# Altium schematic symbol library Power_Protection.SchLib: 144 symbols (part 2 of 2)
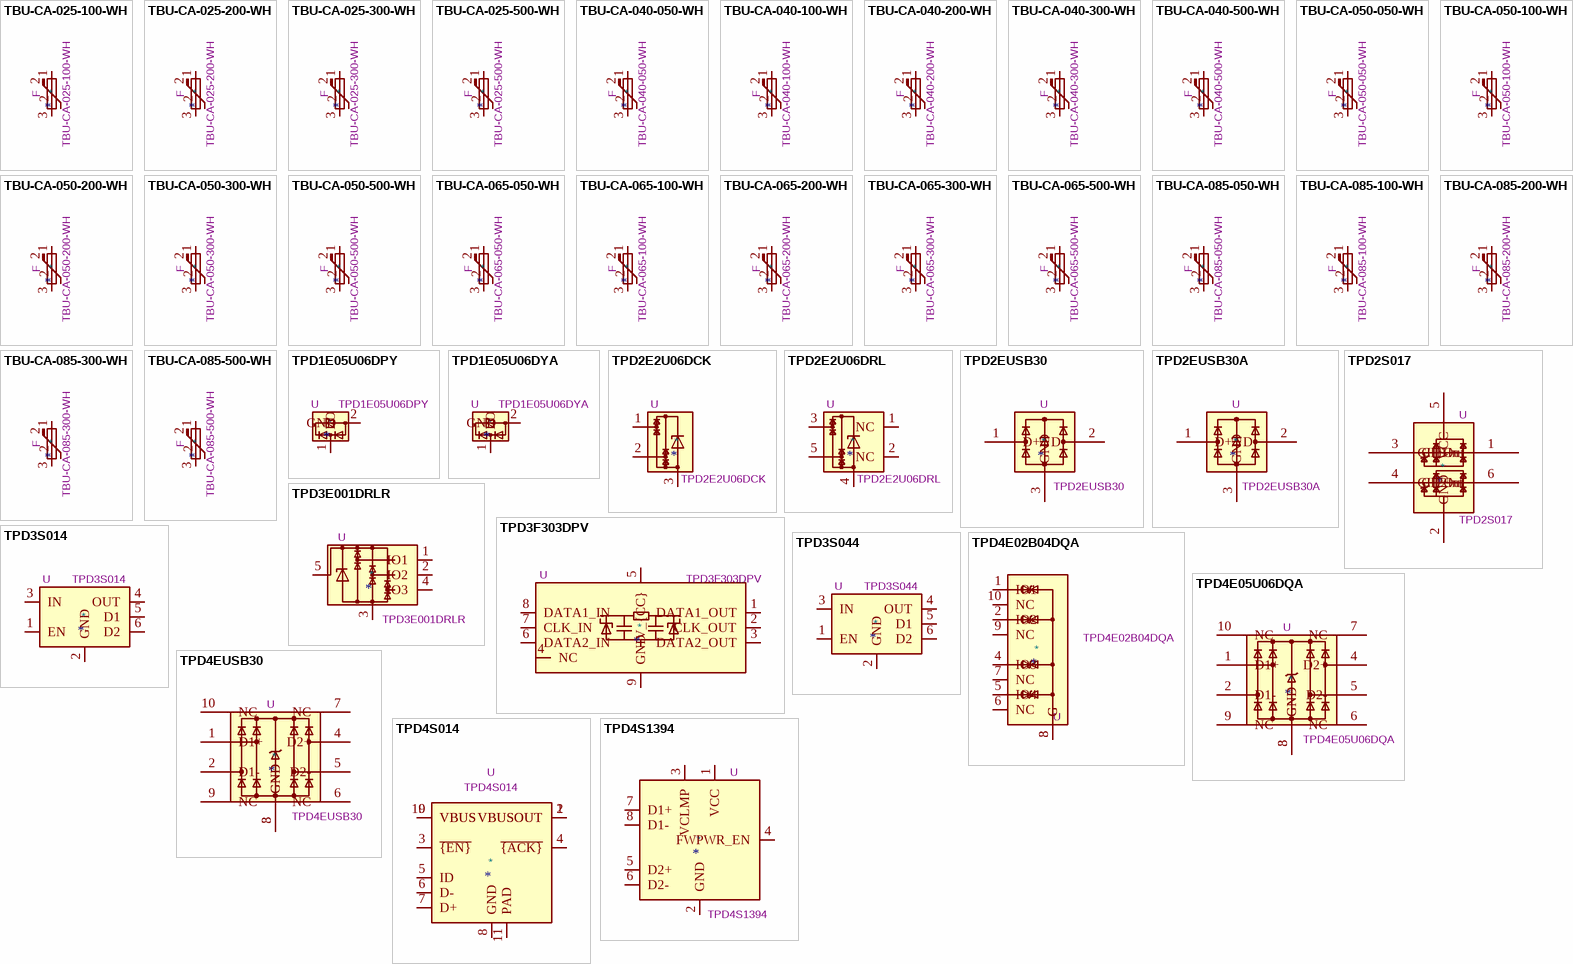
[diagram p5: symbols TBU-CA-025-100-WH to TPD4S1394]

## TPD1E05U06DPY
designator *  value TPD1E05U06DPY  Reference: U
1-Channel ESD Protection for Super-Speed USB 3.0 Interface, X1SON-2; ki_keywords: ESD protection USB 3.0; ki_fp_filters: Texas*DPY0002A*; Footprint: Package_SON:Texas_DPY0002A_0.6x1mm_P0.65mm; Datasheet: https://www.ti.com/lit/ds/symlink/tpd1e05u06.pdf; Description_: 1-Channel ESD Protection for Super-Speed USB 3.0 Interface, X1SON-2
pins: 1 I/O, 2 GND

## TPD1E05U06DYA
designator *  value TPD1E05U06DYA  Reference: U
1-Channel ESD Protection for Super-Speed USB 3.0 Interface, SOD-523; ki_keywords: ESD protection USB 3.0; ki_fp_filters: *SOD*523*; Footprint: Diode_SMD:D_SOD-523; Datasheet: https://www.ti.com/lit/ds/symlink/tpd1e05u06.pdf; Description_: 1-Channel ESD Protection for Super-Speed USB 3.0 Interface, SOD-523
pins: 1 I/O, 2 GND

## TPD2E2U06DCK
designator *  value TPD2E2U06DCK  Reference: U
Dual-Channel High-Speed ESD Protection, SC-70; ki_keywords: TVS; ki_fp_filters: *SC?70*; Footprint: Package_TO_SOT_SMD:SOT-323_SC-70; Datasheet: http://www.ti.com/lit/ds/symlink/tpd2e2u06.pdf; Description_: Dual-Channel High-Speed ESD Protection, SC-70
pins: 1, 2, 3

## TPD2E2U06DRL
designator *  value TPD2E2U06DRL  Reference: U
Dual-Channel High-Speed ESD Protection, SOT-553; ki_keywords: TVS; ki_fp_filters: SOT?553*; Footprint: Package_TO_SOT_SMD:SOT-553; Datasheet: http://www.ti.com/lit/ds/symlink/tpd2e2u06.pdf; Description_: Dual-Channel High-Speed ESD Protection, SOT-553
pins: 1 NC, 2 NC, 3, 4, 5

## TPD2EUSB30
designator *  value TPD2EUSB30  Reference: U
2-Channel ESD Protection for Super-Speed USB 3.0 Interface, DRT-3; ki_keywords: ESD protection USB 3.0; ki_fp_filters: Texas*DRT*; Footprint: Package_TO_SOT_SMD:Texas_DRT-3; Datasheet: http://www.ti.com/lit/ds/symlink/tpd2eusb30a.pdf; Description_: 2-Channel ESD Protection for Super-Speed USB 3.0 Interface, DRT-3
pins: 1 D+, 2 D-, 3 GND

## TPD2EUSB30A
designator *  value TPD2EUSB30A  Reference: U
2-Channel ESD Protection for Super-Speed USB 3.0 Interface, DRT-3; ki_keywords: ESD protection USB 3.0; ki_fp_filters: Texas*DRT*; Footprint: Package_TO_SOT_SMD:Texas_DRT-3; Datasheet: http://www.ti.com/lit/ds/symlink/tpd2eusb30a.pdf; Description_: 2-Channel ESD Protection for Super-Speed USB 3.0 Interface, DRT-3
pins: 1 D+, 2 D-, 3 GND

## TPD2S017
designator *  value TPD2S017  Reference: U
2-Channel Ultra-Low Clamp Voltage ESD Solution With Series-Resistor Isolation, SOT-23; ki_keywords: ESD protection; ki_fp_filters: SOT?23*; Footprint: Package_TO_SOT_SMD:SOT-23-6; Datasheet: http://www.ti.com/lit/ds/symlink/tpd2s017.pdf; Description_: 2-Channel Ultra-Low Clamp Voltage ESD Solution With Series-Resistor Isolation, SOT-23
pins: 1 CH1Out, 2 GND, 3 CH1In, 4 CH2Int, 5 VCC, 6 CH2Out

## TPD3E001DRLR
designator *  value TPD3E001DRLR  Reference: U
TPD3E001 Low-Capacitance 3-Channel ESD-Protection for High-Speed Data Interfaces; ki_fp_filters: SOT?553*; Footprint: Package_TO_SOT_SMD:SOT-553; Datasheet: http://www.ti.com/lit/ds/symlink/tpd3e001.pdf; Description_: TPD3E001 Low-Capacitance 3-Channel ESD-Protection for High-Speed Data Interfaces; ki_keywords: ESD-Protection
pins: 1 IO1, 2 IO2, 3, 4 IO3, 5

## TPD3F303DPV
designator *  value TPD3F303DPV  Reference: U
3 channel EMI filters with integrated ESD protection for SIM Card Interface, USON-8; ki_keywords: EMI ESD protection; ki_fp_filters: *USON*1EP*1.6x2.1mm*P0.5mm*; Footprint: Package_SON:Texas_R-PUSON-N8_USON-8-1EP_1.6x2.1mm_P0.5mm_EP0.4x1.7mm; Datasheet: https://www.ti.com/lit/gpn/tpd3f303; Description_: 3 channel EMI filters with integrated ESD protection for SIM Card Interface, USON-8
pins: 1 DATA1_OUT, 2 CLK_OUT, 3 DATA2_OUT, 4 NC, 5 V_{CC}, 6 DATA2_IN, 7 CLK_IN, 8 DATA1_IN, 9 GND

## TPD3S014
designator *  value TPD3S014  Reference: U
Current Limit Switch and D+/D– ESD Protection for USB Host Port, 0.5A, SOT-23-6; ki_keywords: ESD-Protection; ki_fp_filters: SOT?23*; Footprint: Package_TO_SOT_SMD:SOT-23-6; Datasheet: http://www.ti.com/lit/ds/symlink/tpd3s014.pdf; Description_: Current Limit Switch and D+/D– ESD Protection for USB Host Port, 0.5A, SOT-23-6
pins: 1 EN, 2 GND, 3 IN, 4 OUT, 5 D1, 6 D2

## TPD3S044
designator *  value TPD3S044  Reference: U
Current Limit Switch and D+/D– ESD Protection for USB Host Port, 1.5A, SOT-23-6; ki_keywords: ESD-Protection; ki_fp_filters: SOT?23*; Footprint: Package_TO_SOT_SMD:SOT-23-6; Datasheet: http://www.ti.com/lit/ds/symlink/tpd3s014.pdf; Description_: Current Limit Switch and D+/D– ESD Protection for USB Host Port, 1.5A, SOT-23-6
pins: 1 EN, 2 GND, 3 IN, 4 OUT, 5 D1, 6 D2

## TPD4E02B04DQA
designator *  value TPD4E02B04DQA  Reference: U
4-Channel ESD Protection Diode for USB Type-C and HDMI 2.0, USON-10; ki_keywords: ESD protection USB HDMI; ki_fp_filters: USON*2.5x1.0mm*P0.5mm*; Footprint: Package_SON:USON-10_2.5x1.0mm_P0.5mm; Datasheet: http://www.ti.com/lit/ds/symlink/tpd4e02b04.pdf; Description_: 4-Channel ESD Protection Diode for USB Type-C and HDMI 2.0, USON-10
pins: 1 IO1, 2 IO2, 3 G, 4 IO3, 5 IO4, 6 NC, 7 NC, 8 G, 9 NC, 10 NC

## TPD4E05U06DQA
designator *  value TPD4E05U06DQA  Reference: U
4-Channel ESD Protection for Super-Speed USB 3.0 Interface, USON-10; ki_keywords: ESD protection USB 3.0; ki_fp_filters: USON*2.5x1.0mm*P0.5mm*; Footprint: Package_SON:USON-10_2.5x1.0mm_P0.5mm; Datasheet: https://www.ti.com/lit/ds/symlink/tpd4e05u06.pdf; Description_: 4-Channel ESD Protection for Super-Speed USB 3.0 Interface, USON-10
pins: 1 D1+, 2 D1-, 3 GND, 4 D2+, 5 D2-, 6 NC, 7 NC, 8 GND, 9 NC, 10 NC

## TPD4EUSB30
designator *  value TPD4EUSB30  Reference: U
4-Channel ESD Protection for Super-Speed USB 3.0 Interface, USON-10; ki_keywords: ESD protection USB 3.0; ki_fp_filters: USON*2.5x1.0mm*P0.5mm*; Footprint: Package_SON:USON-10_2.5x1.0mm_P0.5mm; Datasheet: http://www.ti.com/lit/ds/symlink/tpd2eusb30a.pdf; Description_: 4-Channel ESD Protection for Super-Speed USB 3.0 Interface, USON-10
pins: 1 D1+, 2 D1-, 3 GND, 4 D2+, 5 D2-, 6 NC, 7 NC, 8 GND, 9 NC, 10 NC

## TPD4S014
designator *  value TPD4S014  Reference: U
USB Charger Port Protection Including ESD Protection for All Lines and Overvoltage Protection on VBUS; ki_keywords: USB  Port Protection; ki_fp_filters: Package?SON:Texas?S?PWSON?N10*; Footprint: Package_SON:Texas_S-PWSON-N10; Datasheet: http://www.ti.com/lit/ds/symlink/tpd4s014.pdf; Description_: USB Charger Port Protection Including ESD Protection for All Lines and Overvoltage Protection on VBUS
pins: 1 VBUSOUT, 2 VBUSOUT, 3 ~{{EN}}, 4 ~{{ACK}}, 5 ID, 6 D-, 7 D+, 8 GND, 9 VBUS, 10 VBUS, 11 PAD

## TPD4S1394
designator *  value TPD4S1394  Reference: U
Firewire ESD Clamp With Live-Insertion Detection Circuit, X2SON-8; ki_fp_filters: X2SON*1.4x1mm*P0.35mm*; Footprint: Package_SON:X2SON-8_1.4x1mm_P0.35mm; Datasheet: http://www.ti.com/lit/ds/symlink/tpd4s1394.pdf; Description_: Firewire ESD Clamp With Live-Insertion Detection Circuit, X2SON-8; ki_keywords: firewire ESD clamp
pins: 1 VCC, 2 GND, 3 VCLMP, 4 FWPWR_EN, 5 D2+, 6 D2-, 7 D1+, 8 D1-

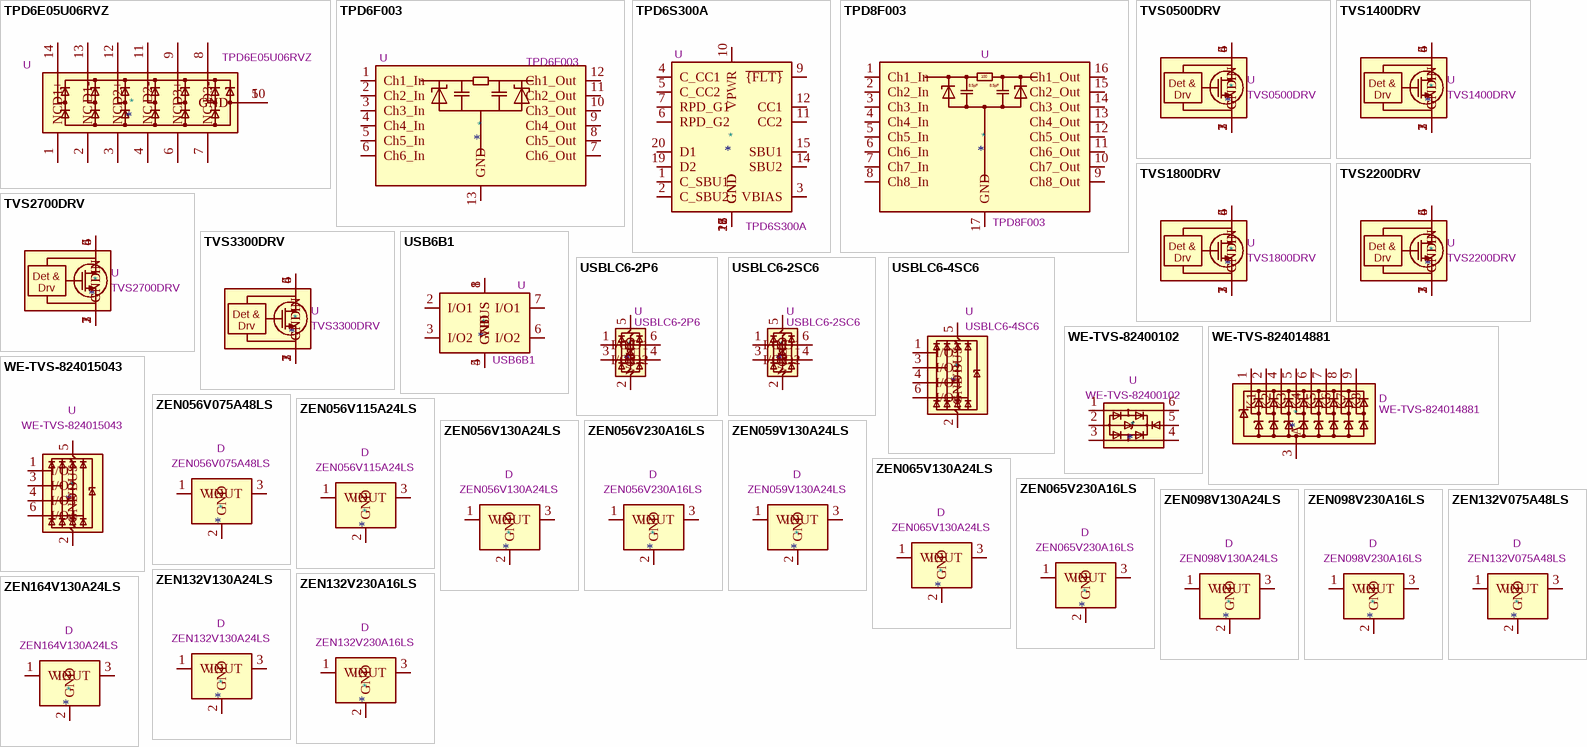
[diagram p4: symbols TPD6E05U06RVZ to ZEN164V130A24LS]

## TPD6E05U06RVZ
designator *  value TPD6E05U06RVZ  Reference: U
6-Channel ESD Protection for Super-Speed USB 3.0 Interface, USON-14; ki_keywords: ESD protection USB 3.0; ki_fp_filters: Texas*PUSON*14*; Footprint: Package_SON:Texas_R-PUSON-N14; Datasheet: https://www.ti.com/lit/ds/symlink/tpd1e05u06.pdf; Description_: 6-Channel ESD Protection for Super-Speed USB 3.0 Interface, USON-14
pins: 1 NC, 2 NC, 3 NC, 4 NC, 5 GND, 6 NC, 7 NC, 8 D3-, 9 D3+, 10 GND, 11 D2-, 12 D2+, 13 D1-, 14 D1+

## TPD6F003
designator *  value TPD6F003  Reference: U
6 channel EMI filters with integrated ESD protection; ki_keywords: EMI, ESD protection; ki_fp_filters: *WSON*EP0.4x2mm*; Footprint: Package_SON:Texas_R-PWSON-N12_EP0.4x2mm; Datasheet: http://www.ti.com/lit/ds/symlink/tpd6f003.pdf; Description_: 6 channel EMI filters with integrated ESD protection
pins: 1 Ch1_In, 2 Ch2_In, 3 Ch3_In, 4 Ch4_In, 5 Ch5_In, 6 Ch6_In, 7 Ch6_Out, 8 Ch5_Out, 9 Ch4_Out, 10 Ch3_Out, 11 Ch2_Out, 12 Ch1_Out, 13 GND

## TPD6S300A
designator *  value TPD6S300A  Reference: U
USB Type-C Port Protector: Short-to-VBUS Overvoltage and IEC ESD Protection, WQFN-20; ki_keywords: USB-C ESD; ki_fp_filters: WQFN*1EP*3x3mm*P0.4mm*; Footprint: Package_DFN_QFN:WQFN-20-1EP_3x3mm_P0.4mm_EP1.7x1.7mm_ThermalVias; Datasheet: https://www.ti.com/lit/ds/symlink/tpd6s300a.pdf; Description_: USB Type-C Port Protector: Short-to-VBUS Overvoltage and IEC ESD Protection, WQFN-20
pins: 1 C_SBU1, 2 C_SBU2, 3 VBIAS, 4 C_CC1, 5 C_CC2, 6 RPD_G2, 7 RPD_G1, 8 GND, 9 ~{{FLT}}, 10 VPWR, 11 CC2, 12 CC1, 13 GND, 14 SBU2, 15 SBU1, 16 GND, 17 GND, 18 GND, 19 D2, 20 D1, 21 GND

## TPD8F003
designator *  value TPD8F003  Reference: U
8 channel EMI filters with integrated ESD protection; ki_keywords: EMI, ESD protection; ki_fp_filters: WSON*3.3x1.35*P0.4mm*; Footprint: Package_SON:WSON-16_3.3x1.35_P0.4mm; Datasheet: http://www.ti.com/lit/ds/symlink/tpd6f003.pdf; Description_: 8 channel EMI filters with integrated ESD protection
pins: 1 Ch1_In, 2 Ch2_In, 3 Ch3_In, 4 Ch4_In, 5 Ch5_In, 6 Ch6_In, 7 Ch7_In, 8 Ch8_In, 9 Ch8_Out, 10 Ch7_Out, 11 Ch6_Out, 12 Ch5_Out, 13 Ch4_Out, 14 Ch3_Out, 15 Ch2_Out, 16 Ch1_Out, 17 GND
text: 100; 8.5pF

## TVS0500DRV
designator *  value TVS0500DRV  Reference: U
Flat-Clamp Surge Protection Device. 5Vrwm, WSON-6; ki_keywords: EMI, ESD, TVS protection transient; ki_fp_filters: WSON*1EP*2x2mm*P0.65mm*EP1x1.6mm*; Footprint: Package_SON:WSON-6-1EP_2x2mm_P0.65mm_EP1x1.6mm; Datasheet: http://www.ti.com/lit/ds/symlink/tvs0500.pdf; Description_: Flat-Clamp Surge Protection Device. 5Vrwm, WSON-6
pins: 1 GND, 2 GND, 3 GND, 4 IN, 5 IN, 6 IN, 7 GND
text: Det &; Drv

## TVS1400DRV
designator *  value TVS1400DRV  Reference: U
Flat-Clamp Surge Protection Device. 14Vrwm, WSON-6; ki_keywords: EMI, ESD, TVS protection transient; ki_fp_filters: WSON*1EP*2x2mm*P0.65mm*EP1x1.6mm*; Footprint: Package_SON:WSON-6-1EP_2x2mm_P0.65mm_EP1x1.6mm; Datasheet: http://www.ti.com/lit/ds/symlink/tvs1400.pdf; Description_: Flat-Clamp Surge Protection Device. 14Vrwm, WSON-6
pins: 1 GND, 2 GND, 3 GND, 4 IN, 5 IN, 6 IN, 7 GND
text: Det &; Drv

## TVS1800DRV
designator *  value TVS1800DRV  Reference: U
Flat-Clamp Surge Protection Device. 18Vrwm, WSON-6; ki_keywords: EMI, ESD, TVS protection transient; ki_fp_filters: WSON*1EP*2x2mm*P0.65mm*EP1x1.6mm*; Footprint: Package_SON:WSON-6-1EP_2x2mm_P0.65mm_EP1x1.6mm; Datasheet: http://www.ti.com/lit/ds/symlink/tvs1800.pdf; Description_: Flat-Clamp Surge Protection Device. 18Vrwm, WSON-6
pins: 1 GND, 2 GND, 3 GND, 4 IN, 5 IN, 6 IN, 7 GND
text: Det &; Drv

## TVS2200DRV
designator *  value TVS2200DRV  Reference: U
Flat-Clamp Surge Protection Device. 22Vrwm, WSON-6; ki_keywords: EMI, ESD, TVS protection transient; ki_fp_filters: WSON*1EP*2x2mm*P0.65mm*EP1x1.6mm*; Footprint: Package_SON:WSON-6-1EP_2x2mm_P0.65mm_EP1x1.6mm; Datasheet: http://www.ti.com/lit/ds/symlink/tvs2200.pdf; Description_: Flat-Clamp Surge Protection Device. 22Vrwm, WSON-6
pins: 1 GND, 2 GND, 3 GND, 4 IN, 5 IN, 6 IN, 7 GND
text: Det &; Drv

## TVS2700DRV
designator *  value TVS2700DRV  Reference: U
Flat-Clamp Surge Protection Device. 27Vrwm, WSON-6; ki_keywords: EMI, ESD, TVS protection transient; ki_fp_filters: WSON*1EP*2x2mm*P0.65mm*EP1x1.6mm*; Footprint: Package_SON:WSON-6-1EP_2x2mm_P0.65mm_EP1x1.6mm; Datasheet: http://www.ti.com/lit/ds/symlink/tvs2700.pdf; Description_: Flat-Clamp Surge Protection Device. 27Vrwm, WSON-6
pins: 1 GND, 2 GND, 3 GND, 4 IN, 5 IN, 6 IN, 7 GND
text: Det &; Drv

## TVS3300DRV
designator *  value TVS3300DRV  Reference: U
Flat-Clamp Surge Protection Device. 33Vrwm, WSON-6; ki_keywords: EMI, ESD, TVS protection transient; ki_fp_filters: WSON*1EP*2x2mm*P0.65mm*EP1x1.6mm*; Footprint: Package_SON:WSON-6-1EP_2x2mm_P0.65mm_EP1x1.6mm; Datasheet: http://www.ti.com/lit/ds/symlink/tvs3300.pdf; Description_: Flat-Clamp Surge Protection Device. 33Vrwm, WSON-6
pins: 1 GND, 2 GND, 3 GND, 4 IN, 5 IN, 6 IN, 7 GND
text: Det &; Drv

## USB6B1
designator *  value USB6B1  Reference: U
5V Data line protection; ki_keywords: ESD USB; ki_fp_filters: SOIC*3.9x4.9mm*P1.27mm*; Footprint: Package_SO:SOIC-8_3.9x4.9mm_P1.27mm; Datasheet: http://www.st.com/content/ccc/resource/technical/document/datasheet/3e/ec/b2/54/b2/76/47/90/CD00001361.pdf/files/CD00001361.pdf/jcr:content/translations/en.CD00001361.pdf; Description_: 5V Data line protection
pins: 1 VBUS, 2 I/O1, 3 I/O2, 4 GND, 5 GND, 6 I/O2, 7 I/O1, 8 VBUS

## USBLC6-2P6
designator *  value USBLC6-2P6  Reference: U
Very low capacitance ESD protection diode, 2 data-line, SOT-666; ki_keywords: usb ethernet video; ki_fp_filters: SOT?666*; Footprint: Package_TO_SOT_SMD:SOT-666; Datasheet: https://www.st.com/resource/en/datasheet/usblc6-2.pdf; Description_: Very low capacitance ESD protection diode, 2 data-line, SOT-666
pins: 1 I/O1, 2 GND, 3 I/O2, 4 I/O2, 5 VBUS, 6 I/O1

## USBLC6-2SC6
designator *  value USBLC6-2SC6  Reference: U
Very low capacitance ESD protection diode, 2 data-line, SOT-23-6; ki_keywords: usb ethernet video; ki_fp_filters: SOT?23*; Footprint: Package_TO_SOT_SMD:SOT-23-6; Datasheet: https://www.st.com/resource/en/datasheet/usblc6-2.pdf; Description_: Very low capacitance ESD protection diode, 2 data-line, SOT-23-6
pins: 1 I/O1, 2 GND, 3 I/O2, 4 I/O2, 5 VBUS, 6 I/O1

## USBLC6-4SC6
designator *  value USBLC6-4SC6  Reference: U
Very low capacitance ESD protection diode, 4 data-line, SOT-23-6; ki_keywords: usb ethernet sim card video; ki_fp_filters: SOT?23*; Footprint: Package_TO_SOT_SMD:SOT-23-6; Datasheet: https://www.st.com/resource/en/datasheet/usblc6-4.pdf; Description_: Very low capacitance ESD protection diode, 4 data-line, SOT-23-6
pins: 1 I/O1, 2 GND, 3 I/O2, 4 I/O3, 5 VBUS, 6 I/O4

## WE-TVS-82400102
designator *  value WE-TVS-82400102  Reference: U
Low Capacitance TVS Diode Array, 2 Channels, SOT-23-6; ki_keywords: ESD Protection TVS High-speed USB; ki_fp_filters: SOT?23*; Footprint: Package_TO_SOT_SMD:SOT-23-6; Datasheet: https://www.we-online.com/components/products/datasheet/82400102.pdf; Description_: Low Capacitance TVS Diode Array, 2 Channels, SOT-23-6
pins: 1, 2, 3, 4, 5, 6

## WE-TVS-824014881
designator *  value WE-TVS-824014881  Reference: D
Obsolete, EOL, TVS Diode Array, 1.2V Standoff, 8 Channels, UDFN-9; ki_keywords: usb esd protection suppression transient; ki_fp_filters: UDFN*1.0x3.8mm*P0.5mm*; Footprint: Package_DFN_QFN:UDFN-9_1.0x3.8mm_P0.5mm; Datasheet: https://eu.mouser.com/datasheet/2/445/824014881-1724976.pdf; Description_: Obsolete, EOL, TVS Diode Array, 1.2V Standoff, 8 Channels, UDFN-9
pins: 1 K1, 2 K2, 3 A, 4 K3, 5 K4, 6 K5, 7 K6, 8 K7, 9 K8

## WE-TVS-824015043
designator *  value WE-TVS-824015043  Reference: U
Low Capacitance TVS Diode Array, 2 Channels, SOT-23-6; ki_keywords: ESD Protection TVS High-speed USB; ki_fp_filters: SOT?23*; Footprint: Package_TO_SOT_SMD:SOT-23-6; Datasheet: https://www.we-online.com/components/products/datasheet/824015043.pdf; Description_: Low Capacitance TVS Diode Array, 2 Channels, SOT-23-6
pins: 1 I/O1, 2 GND, 3 I/O2, 4 I/O3, 5 VBUS, 6 I/O4

## ZEN056V075A48LS
designator *  value ZEN056V075A48LS  Reference: D
Polymer Protected Zener Diode, 5.6V, 0.75A, 48V, LS; ki_keywords: Polymer zener; ki_fp_filters: Littelfuse*PolyZen*LS*; Footprint: Diode_SMD:Littelfuse_PolyZen-LS; Datasheet: http://m.littelfuse.com/~/media/electronics/datasheets/polyzen_devices/littelfuse_polyzen_standard_polyzen_catalog_datasheet.pdf.pdf; Description_: Polymer Protected Zener Diode, 5.6V, 0.75A, 48V, LS
pins: 1 VIN, 2 GND, 3 VOUT

## ZEN056V115A24LS
designator *  value ZEN056V115A24LS  Reference: D
Polymer Protected Zener Diode, 5.6V, 1.15A, 24V, LS; ki_keywords: Polymer zener; ki_fp_filters: Littelfuse*PolyZen*LS*; Footprint: Diode_SMD:Littelfuse_PolyZen-LS; Datasheet: http://m.littelfuse.com/~/media/electronics/datasheets/polyzen_devices/littelfuse_polyzen_standard_polyzen_catalog_datasheet.pdf.pdf; Description_: Polymer Protected Zener Diode, 5.6V, 1.15A, 24V, LS
pins: 1 VIN, 2 GND, 3 VOUT

## ZEN056V130A24LS
designator *  value ZEN056V130A24LS  Reference: D
Polymer Protected Zener Diode, 5.6V, 1.30A, 24V, LS; ki_keywords: Polymer zener; ki_fp_filters: Littelfuse*PolyZen*LS*; Footprint: Diode_SMD:Littelfuse_PolyZen-LS; Datasheet: http://m.littelfuse.com/~/media/electronics/datasheets/polyzen_devices/littelfuse_polyzen_standard_polyzen_catalog_datasheet.pdf.pdf; Description_: Polymer Protected Zener Diode, 5.6V, 1.30A, 24V, LS
pins: 1 VIN, 2 GND, 3 VOUT

## ZEN056V230A16LS
designator *  value ZEN056V230A16LS  Reference: D
Polymer Protected Zener Diode, 5.6V, 2.30A, 16V, LS; ki_keywords: Polymer zener; ki_fp_filters: Littelfuse*PolyZen*LS*; Footprint: Diode_SMD:Littelfuse_PolyZen-LS; Datasheet: http://m.littelfuse.com/~/media/electronics/datasheets/polyzen_devices/littelfuse_polyzen_standard_polyzen_catalog_datasheet.pdf.pdf; Description_: Polymer Protected Zener Diode, 5.6V, 2.30A, 16V, LS
pins: 1 VIN, 2 GND, 3 VOUT

## ZEN059V130A24LS
designator *  value ZEN059V130A24LS  Reference: D
Polymer Protected Zener Diode, 5.9V, 1.30A, 24V, LS; ki_keywords: Polymer zener; ki_fp_filters: Littelfuse*PolyZen*LS*; Footprint: Diode_SMD:Littelfuse_PolyZen-LS; Datasheet: http://m.littelfuse.com/~/media/electronics/datasheets/polyzen_devices/littelfuse_polyzen_standard_polyzen_catalog_datasheet.pdf.pdf; Description_: Polymer Protected Zener Diode, 5.9V, 1.30A, 24V, LS
pins: 1 VIN, 2 GND, 3 VOUT

## ZEN065V130A24LS
designator *  value ZEN065V130A24LS  Reference: D
Polymer Protected Zener Diode, 6.5V, 1.30A, 24V, LS; ki_keywords: Polymer zener; ki_fp_filters: Littelfuse*PolyZen*LS*; Footprint: Diode_SMD:Littelfuse_PolyZen-LS; Datasheet: http://m.littelfuse.com/~/media/electronics/datasheets/polyzen_devices/littelfuse_polyzen_standard_polyzen_catalog_datasheet.pdf.pdf; Description_: Polymer Protected Zener Diode, 6.5V, 1.30A, 24V, LS
pins: 1 VIN, 2 GND, 3 VOUT

## ZEN065V230A16LS
designator *  value ZEN065V230A16LS  Reference: D
Polymer Protected Zener Diode, 6.5V, 2.30A, 16V, LS; ki_keywords: Polymer zener; ki_fp_filters: Littelfuse*PolyZen*LS*; Footprint: Diode_SMD:Littelfuse_PolyZen-LS; Datasheet: http://m.littelfuse.com/~/media/electronics/datasheets/polyzen_devices/littelfuse_polyzen_standard_polyzen_catalog_datasheet.pdf.pdf; Description_: Polymer Protected Zener Diode, 6.5V, 2.30A, 16V, LS
pins: 1 VIN, 2 GND, 3 VOUT

## ZEN098V130A24LS
designator *  value ZEN098V130A24LS  Reference: D
Polymer Protected Zener Diode, 9.8V, 1.30A, 24V, LS; ki_keywords: Polymer zener; ki_fp_filters: Littelfuse*PolyZen*LS*; Footprint: Diode_SMD:Littelfuse_PolyZen-LS; Datasheet: http://m.littelfuse.com/~/media/electronics/datasheets/polyzen_devices/littelfuse_polyzen_standard_polyzen_catalog_datasheet.pdf.pdf; Description_: Polymer Protected Zener Diode, 9.8V, 1.30A, 24V, LS
pins: 1 VIN, 2 GND, 3 VOUT

## ZEN098V230A16LS
designator *  value ZEN098V230A16LS  Reference: D
Polymer Protected Zener Diode, 9.8V, 2.30A, 16V, LS; ki_keywords: Polymer zener; ki_fp_filters: Littelfuse*PolyZen*LS*; Footprint: Diode_SMD:Littelfuse_PolyZen-LS; Datasheet: http://m.littelfuse.com/~/media/electronics/datasheets/polyzen_devices/littelfuse_polyzen_standard_polyzen_catalog_datasheet.pdf.pdf; Description_: Polymer Protected Zener Diode, 9.8V, 2.30A, 16V, LS
pins: 1 VIN, 2 GND, 3 VOUT

## ZEN132V075A48LS
designator *  value ZEN132V075A48LS  Reference: D
Polymer Protected Zener Diode, 13.2V, 0.75A, 48V, LS; ki_keywords: Polymer zener; ki_fp_filters: Littelfuse*PolyZen*LS*; Footprint: Diode_SMD:Littelfuse_PolyZen-LS; Datasheet: http://m.littelfuse.com/~/media/electronics/datasheets/polyzen_devices/littelfuse_polyzen_standard_polyzen_catalog_datasheet.pdf.pdf; Description_: Polymer Protected Zener Diode, 13.2V, 0.75A, 48V, LS
pins: 1 VIN, 2 GND, 3 VOUT

## ZEN132V130A24LS
designator *  value ZEN132V130A24LS  Reference: D
Polymer Protected Zener Diode, 13.2V, 1.30A, 24V, LS; ki_keywords: Polymer zener; ki_fp_filters: Littelfuse*PolyZen*LS*; Footprint: Diode_SMD:Littelfuse_PolyZen-LS; Datasheet: http://m.littelfuse.com/~/media/electronics/datasheets/polyzen_devices/littelfuse_polyzen_standard_polyzen_catalog_datasheet.pdf.pdf; Description_: Polymer Protected Zener Diode, 13.2V, 1.30A, 24V, LS
pins: 1 VIN, 2 GND, 3 VOUT

## ZEN132V230A16LS
designator *  value ZEN132V230A16LS  Reference: D
Polymer Protected Zener Diode, 13.2V, 2.30A, 16V, LS; ki_keywords: Polymer zener; ki_fp_filters: Littelfuse*PolyZen*LS*; Footprint: Diode_SMD:Littelfuse_PolyZen-LS; Datasheet: http://m.littelfuse.com/~/media/electronics/datasheets/polyzen_devices/littelfuse_polyzen_standard_polyzen_catalog_datasheet.pdf.pdf; Description_: Polymer Protected Zener Diode, 13.2V, 2.30A, 16V, LS
pins: 1 VIN, 2 GND, 3 VOUT

## ZEN164V130A24LS
designator *  value ZEN164V130A24LS  Reference: D
Polymer Protected Zener Diode, 16.4V, 1.30A, 24V, LS; ki_keywords: Polymer zener; ki_fp_filters: Littelfuse*PolyZen*LS*; Footprint: Diode_SMD:Littelfuse_PolyZen-LS; Datasheet: http://m.littelfuse.com/~/media/electronics/datasheets/polyzen_devices/littelfuse_polyzen_standard_polyzen_catalog_datasheet.pdf.pdf; Description_: Polymer Protected Zener Diode, 16.4V, 1.30A, 24V, LS
pins: 1 VIN, 2 GND, 3 VOUT